# Altium footprint library Package_TO_SOT_SMD.PcbLib: 132 footprints (part 1 of 9)
Each footprint in its own frame and in the unit in brackets; x right, y up, seen from the top. Pads: shape width x height; smd on the part's side, far side on the other; paste and mask are expansions set on the pad; w line width, h text height; cw(c..) or ccw(c..) is an arc to the next point about the centre after c.
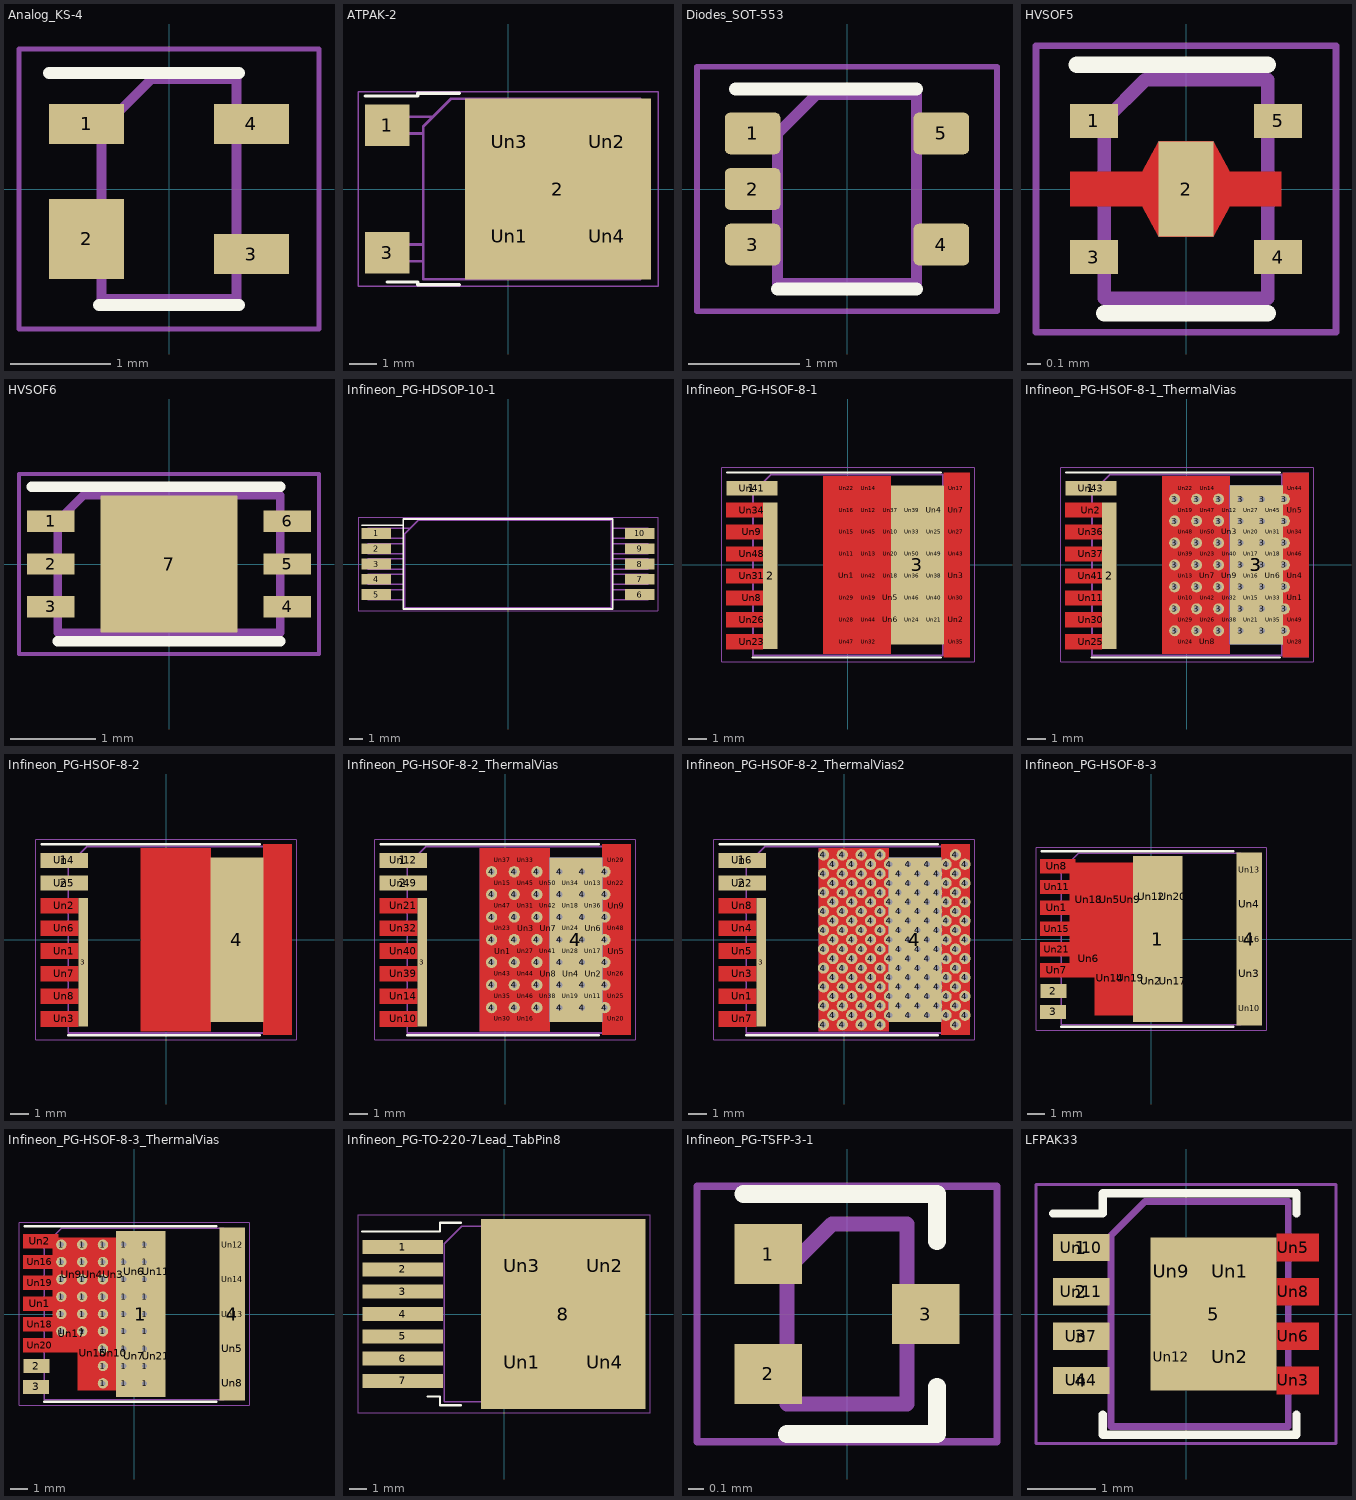
[diagram p0: the footprints below, top view; thin cyan lines are the x and y axes]

## Analog_KS-4 [mm]
pads (4):
  rect 0.75x0.4 smd: 1(-0.825,0.65) 3(0.825,-0.65) 4(0.825,0.65)
  rect 0.75x0.8 smd: 2(-0.825,-0.5)
F.SilkS:
  lines w0.12: -1.2,1.16 0.7,1.16 ; -0.7,-1.16 0.7,-1.16
F.CrtYd:
  lines w0.05: -1.5,-1.4 1.5,-1.4 1.5,1.4 -1.5,1.4 -1.5,-1.4
F.Fab:
  lines w0.1: -0.675,-1.1 -0.675,0.6 -0.175,1.1 0.675,1.1 0.675,-1.1 -0.675,-1.1
  text "'.Designator'" at 0.42,-2.023 h0.5

## ATPAK-2 [mm]
pads (7):
  rect 1.6x1.5 smd: 1(-4.35,2.3) 3(-4.35,-2.3)
  rect 6.7x6.5 smd: 2(1.8,0)
  rect 3.2x3.1 on Top Paste: Un1(0.05,-1.7) Un2(3.55,1.7) Un3(0.05,1.7) Un4(3.55,-1.7)
F.SilkS:
  lines w0.12: -5.15,3.35 -3.25,3.35 -3.25,3.45 -1.75,3.45 ; -4.35,-3.35 -3.25,-3.35 -3.25,-3.45 -1.75,-3.45
F.CrtYd:
  lines w0.05: -5.4,-3.5 5.4,-3.5 5.4,3.5 -5.4,3.5 -5.4,-3.5
F.Fab:
  lines w0.1: -3.05,-2.6 -4.75,-2.6 -4.75,-2 -3.05,-2 ; -3.05,2 -4.75,2 -4.75,2.6 -2.7,2.6 ; 4.25,-3.25 4.25,3.25 ; 4.25,-3.25 4.75,-3.25 4.75,3.25 4.25,3.25 ; 4.25,-3.25 -3.05,-3.25 -3.05,2.25 -2.05,3.25 4.25,3.25
  text "'.Designator'" at -4.047,-0.84 h1

## Diodes_SOT-553 [mm]
pads (5):
  rrect25% 0.5x0.375 smd: 1(-0.85,0.5) 2(-0.85,0) 3(-0.85,-0.5) 4(0.85,-0.5) 5(0.85,0.5)
F.SilkS:
  lines w0.12: -1,0.9 0.625,0.9 ; -0.625,-0.9 0.625,-0.9
F.CrtYd:
  lines w0.05: -1.35,-1.1 -1.35,1.1 1.35,1.1 1.35,-1.1 -1.35,-1.1
F.Fab:
  lines w0.1: -0.275,0.85 -0.625,0.5 -0.625,-0.85 0.625,-0.85 0.625,0.85 -0.25,0.85
  text "'.Designator'" at 0.339,-1.621 h0.4

## HVSOF5 [mm]
pads (5):
  rect 0.35x0.25 smd: 1(-0.675,0.5) 3(-0.675,-0.5) 4(0.675,-0.5) 5(0.675,0.5)
  rect 0.4x0.7 smd: 2(0,0)
F.Cu:
  region: 0.32,0.125 0.7,0.125 0.7,-0.125 0.32,-0.125 0.2,-0.35 -0.2,-0.35 -0.32,-0.125 -0.85,-0.125 -0.85,0.125 -0.32,0.125 -0.2,0.35 0.2,0.35
F.SilkS:
  lines w0.12: -0.8,0.91 0.6,0.91 ; -0.6,-0.91 0.6,-0.91
F.Paste:
  region: 0.32,0.125 0.7,0.125 0.7,-0.125 0.32,-0.125 0.2,-0.35 -0.2,-0.35 -0.32,-0.125 -0.85,-0.125 -0.85,0.125 -0.32,0.125 -0.2,0.35 0.2,0.35
F.Mask:
  region: 0.32,0.125 0.7,0.125 0.7,-0.125 0.32,-0.125 0.2,-0.35 -0.2,-0.35 -0.32,-0.125 -0.85,-0.125 -0.85,0.125 -0.32,0.125 -0.2,0.35 0.2,0.35
F.CrtYd:
  lines w0.05: -1.1,-1.05 1.1,-1.05 1.1,1.05 -1.1,1.05 -1.1,-1.05
F.Fab:
  lines w0.1: -0.6,-0.8 -0.6,0.5 -0.3,0.8 0.6,0.8 0.6,-0.8 -0.6,-0.8
  text "'.Designator'" at 0.351,-1.634 h0.4

## HVSOF6 [mm]
pads (7):
  rect 0.55x0.25 smd: 1(-1.38,0.5) 2(-1.38,0) 3(-1.38,-0.5) 4(1.38,-0.5) 5(1.38,0) 6(1.38,0.5)
  rect 1.6x1.6 smd: 7(0,0)
F.SilkS:
  lines w0.12: -1.6,0.9 1.3,0.9 ; -1.3,-0.9 1.3,-0.9
F.CrtYd:
  lines w0.05: -1.75,-1.05 1.75,-1.05 1.75,1.05 -1.75,1.05 -1.75,-1.05
F.Fab:
  lines w0.1: -1.3,-0.8 -1.3,0.5 -1,0.8 1.3,0.8 1.3,-0.8 -1.3,-0.8
  text "'.Designator'" at -2.428,-0.504 h0.6

## Infineon_PG-HDSOP-10-1 [mm]
pads (10):
  rect 2.2x0.8 smd: 1(-9.85,2.28) 2(-9.85,1.14) 3(-9.85,0) 4(-9.85,-1.14) 5(-9.85,-2.28) 6(9.85,-2.28) 7(9.85,-1.14) 8(9.85,0) 9(9.85,1.14) 10(9.85,2.28)
F.SilkS:
  lines w0.12: -10.9,2.9 -7.81,2.9 ; -7.81,-3.36 7.81,-3.36 7.81,3.36 -7.81,3.36 -7.81,-3.36
F.CrtYd:
  lines w0.05: -11.2,-3.5 -11.2,3.5 11.2,3.5 11.2,-3.5 -11.2,-3.5
F.Fab:
  lines w0.1: -7.7,-2.655 -10.48,-2.655 -10.48,-1.905 -7.7,-1.905 ; -7.7,-1.515 -10.48,-1.515 -10.48,-0.765 -7.7,-0.765 ; -7.7,-0.375 -10.48,-0.375 -10.48,0.375 -7.7,0.375 ; -7.7,0.765 -10.48,0.765 -10.48,1.515 -7.7,1.515 ; -7.7,1.905 -10.48,1.905 -10.48,2.655 -7.3,2.655 ; 7.7,-2.655 10.48,-2.655 10.48,-1.905 7.7,-1.905 ; 7.7,-1.515 10.48,-1.515 10.48,-0.765 7.7,-0.765 ; 7.7,-0.375 10.48,-0.375 10.48,0.375 7.7,0.375 ; 7.7,0.765 10.48,0.765 10.48,1.515 7.7,1.515 ; 7.7,1.905 10.48,1.905 10.48,2.655 7.7,2.655 ; -7.7,-3.25 7.7,-3.25 7.7,3.25 -6.7,3.25 -7.7,2.25 -7.7,-3.25
  text "'.Designator'" at -4.047,-0.84 h1

## Infineon_PG-HSOF-8-1 [mm]
pads (53):
  rect 2.8x0.8 smd: 1(-5.25,4.2)
  rect 0.8x8 smd: 2(-4.25,-0.6)
  rect 2.9x8.7 smd: 3(3.8,0)
  round 1 on Top Paste: Un1(-0.07,-0.6) Un2(5.93,-3) Un3(5.93,-0.6) Un4(4.73,3) Un5(2.33,-1.8) Un6(2.33,-3) Un7(5.93,3) Un10(2.33,1.8) Un11(-0.07,0.6) Un12(1.13,3) Un13(1.13,0.6) Un14(1.13,4.2) Un15(-0.07,1.8) Un16(-0.07,3) Un17(5.93,4.2) Un18(2.33,-0.6) Un19(1.13,-1.8) Un20(2.33,0.6) Un21(4.73,-3) Un22(-0.07,4.2) Un24(3.53,-3) Un25(4.73,1.8) Un27(5.93,1.8) Un28(-0.07,-3) Un29(-0.07,-1.8) Un30(5.93,-1.8) Un32(1.13,-4.2) Un33(3.53,1.8) Un35(5.93,-4.2) Un36(3.53,-0.6) Un37(2.33,3) Un38(4.73,-0.6) Un39(3.53,3) Un40(4.73,-1.8) Un42(1.13,-0.6) Un43(5.93,0.6) Un44(1.13,-3) Un45(1.13,1.8) Un46(3.53,-1.8) Un47(-0.07,-4.2) Un49(4.73,0.6) Un50(3.53,0.6)
  rect 2.6x0.7 on Top Paste: Un8(-5.25,-1.8) Un9(-5.25,1.8) Un23(-5.25,-4.2) Un26(-5.25,-3) Un31(-5.25,-0.6) Un34(-5.25,3) Un41(-5.25,4.2) Un48(-5.25,0.6)
F.Cu:
  region: -4.65,2.6 -6.65,2.6 -6.65,3.4 -4.65,3.4
  region: -4.65,1.4 -6.65,1.4 -6.65,2.2 -4.65,2.2
  region: -4.65,0.2 -6.65,0.2 -6.65,1 -4.65,1
  region: -4.65,-1 -6.65,-1 -6.65,-0.2 -4.65,-0.2
  region: -4.65,-2.2 -6.65,-2.2 -6.65,-1.4 -4.65,-1.4
  region: -4.65,-3.4 -6.65,-3.4 -6.65,-2.6 -4.65,-2.6
  region: -4.65,-4.6 -6.65,-4.6 -6.65,-3.8 -4.65,-3.8
  region: 6.65,-5.05 5.25,-5.05 5.25,5.05 6.65,5.05
  region: 2.35,-4.85 -1.35,-4.85 -1.35,4.85 2.35,4.85
F.SilkS:
  lines w0.12: -6.6,5.06 5.07,5.06 ; -5.2,-5.06 5.07,-5.06
F.Mask:
  region: -4.65,2.6 -6.65,2.6 -6.65,3.4 -4.65,3.4
  region: -4.65,1.4 -6.65,1.4 -6.65,2.2 -4.65,2.2
  region: -4.65,0.2 -6.65,0.2 -6.65,1 -4.65,1
  region: -4.65,-1 -6.65,-1 -6.65,-0.2 -4.65,-0.2
  region: -4.65,-2.2 -6.65,-2.2 -6.65,-1.4 -4.65,-1.4
  region: -4.65,-3.4 -6.65,-3.4 -6.65,-2.6 -4.65,-2.6
  region: -4.65,-4.6 -6.65,-4.6 -6.65,-3.8 -4.65,-3.8
  region: 6.65,-5.05 5.25,-5.05 5.25,5.05 6.65,5.05
  region: 2.35,-4.85 -1.35,-4.85 -1.35,4.85 2.35,4.85
F.CrtYd:
  lines w0.05: -6.9,-5.3 6.9,-5.3 6.9,5.3 -6.9,5.3 -6.9,-5.3
F.Fab:
  lines w0.1: -5.188,-4.95 5.188,-4.95 5.188,4.95 -4.187,4.95 -5.188,3.95 -5.188,-4.95
  text "'.Designator'" at -4.047,-0.84 h1

## Infineon_PG-HSOF-8-1_ThermalVias [mm]
pads (96):
  rect 2.8x0.8 smd: 1(-5.25,4.2)
  rect 0.8x8 smd: 2(-4.25,-0.6)
  round 0.6 hole 0.3: 3(-0.67,-3.6) 3(-0.67,-2.4) 3(-0.67,-1.2) 3(-0.67,0) 3(-0.67,1.2) 3(-0.67,2.4) 3(-0.67,3.6) 3(0.53,-3.6) 3(0.53,-2.4) 3(0.53,-1.2) 3(0.53,0) 3(0.53,1.2) 3(0.53,2.4) 3(0.53,3.6) 3(1.73,-3.6) 3(1.73,-2.4) 3(1.73,-1.2) 3(1.73,0) 3(1.73,1.2) 3(1.73,2.4) 3(1.73,3.6) 3(2.93,-3.6) 3(2.93,-2.4) 3(2.93,-1.2) 3(2.93,0) 3(2.93,1.2) 3(2.93,2.4) 3(2.93,3.6) 3(4.13,-3.6) 3(4.13,-2.4) 3(4.13,-1.2) 3(4.13,0) 3(4.13,1.2) 3(4.13,2.4) 3(4.13,3.6) 3(5.33,-3.6) 3(5.33,-2.4) 3(5.33,-1.2) 3(5.33,0) 3(5.33,1.2) 3(5.33,2.4) 3(5.33,3.6)
  rect 2.9x8.7 smd: 3(3.8,0)
  rect 2.9x8.7 smd far side: 3(3.8,0)
  round 1 on Top Paste: Un1(5.93,-1.8) Un3(2.33,1.8) Un4(5.93,-0.6) Un5(5.93,3) Un6(4.73,-0.6) Un7(1.13,-0.6) Un8(1.13,-4.2) Un9(2.33,-0.6) Un10(-0.07,-1.8) Un12(2.33,3) Un13(-0.07,-0.6) Un14(1.13,4.2) Un15(3.53,-1.8) Un16(3.53,-0.6) Un17(3.53,0.6) Un18(4.73,0.6) Un19(-0.07,3) Un20(3.53,1.8) Un21(3.53,-3) Un22(-0.07,4.2) Un23(1.13,0.6) Un24(-0.07,-4.2) Un26(1.13,-3) Un27(3.53,3) Un28(5.93,-4.2) Un29(-0.07,-3) Un31(4.73,1.8) Un32(2.33,-1.8) Un33(4.73,-1.8) Un34(5.93,1.8) Un35(4.73,-3) Un38(2.33,-3) Un39(-0.07,0.6) Un40(2.33,0.6) Un42(1.13,-1.8) Un44(5.93,4.2) Un45(4.73,3) Un46(5.93,0.6) Un47(1.13,3) Un48(-0.07,1.8) Un49(5.93,-3) Un50(1.13,1.8)
  rect 2.6x0.7 on Top Paste: Un2(-5.25,3) Un11(-5.25,-1.8) Un25(-5.25,-4.2) Un30(-5.25,-3) Un36(-5.25,1.8) Un37(-5.25,0.6) Un41(-5.25,-0.6) Un43(-5.25,4.2)
F.Cu:
  region: -4.65,2.6 -6.65,2.6 -6.65,3.4 -4.65,3.4
  region: -4.65,1.4 -6.65,1.4 -6.65,2.2 -4.65,2.2
  region: -4.65,0.2 -6.65,0.2 -6.65,1 -4.65,1
  region: -4.65,-1 -6.65,-1 -6.65,-0.2 -4.65,-0.2
  region: -4.65,-2.2 -6.65,-2.2 -6.65,-1.4 -4.65,-1.4
  region: -4.65,-3.4 -6.65,-3.4 -6.65,-2.6 -4.65,-2.6
  region: -4.65,-4.6 -6.65,-4.6 -6.65,-3.8 -4.65,-3.8
  region: 6.65,-5.05 5.25,-5.05 5.25,5.05 6.65,5.05
  region: 2.35,-4.85 -1.35,-4.85 -1.35,4.85 2.35,4.85
B.Cu:
  region: 6.65,-5.05 5.25,-5.05 5.25,5.05 6.65,5.05
  region: 2.35,-4.85 -1.35,-4.85 -1.35,4.85 2.35,4.85
F.SilkS:
  lines w0.12: -6.6,5.06 5.07,5.06 ; -5.2,-5.06 5.07,-5.06
F.Mask:
  region: -4.65,2.6 -6.65,2.6 -6.65,3.4 -4.65,3.4
  region: -4.65,1.4 -6.65,1.4 -6.65,2.2 -4.65,2.2
  region: -4.65,0.2 -6.65,0.2 -6.65,1 -4.65,1
  region: -4.65,-1 -6.65,-1 -6.65,-0.2 -4.65,-0.2
  region: -4.65,-2.2 -6.65,-2.2 -6.65,-1.4 -4.65,-1.4
  region: -4.65,-3.4 -6.65,-3.4 -6.65,-2.6 -4.65,-2.6
  region: -4.65,-4.6 -6.65,-4.6 -6.65,-3.8 -4.65,-3.8
  region: 6.65,-5.05 5.25,-5.05 5.25,5.05 6.65,5.05
  region: 2.35,-4.85 -1.35,-4.85 -1.35,4.85 2.35,4.85
F.CrtYd:
  lines w0.05: -6.9,-5.3 -6.9,5.3 6.9,5.3 6.9,-5.3 -6.9,-5.3
F.Fab:
  lines w0.1: -5.188,-4.95 -5.188,3.95 -4.187,4.95 5.188,4.95 5.188,-4.95 -5.188,-4.95
  text "'.Designator'" at -4.047,-0.84 h1

## Infineon_PG-HSOF-8-2 [mm]
pads (12):
  rect 2.5x0.8 smd: 1(-5.4,4.2) 2(-5.4,3)
  rect 0.5x6.8 smd: 3(-4.4,-1.2)
  rect 2.8x8.7 smd: 4(3.75,0)
  rect 2.35x0.7 on Top Paste: Un1(-5.4,-0.6) Un2(-5.4,1.8) Un3(-5.4,-4.2) Un4(-5.4,4.2) Un5(-5.4,3) Un6(-5.4,0.6) Un7(-5.4,-1.8) Un8(-5.4,-3)
F.Cu:
  region: -4.65,1.4 -6.65,1.4 -6.65,2.2 -4.65,2.2
  region: -4.65,0.2 -6.65,0.2 -6.65,1 -4.65,1
  region: -4.65,-1 -6.65,-1 -6.65,-0.2 -4.65,-0.2
  region: -4.65,-2.2 -6.65,-2.2 -6.65,-1.4 -4.65,-1.4
  region: -4.65,-3.4 -6.65,-3.4 -6.65,-2.6 -4.65,-2.6
  region: -4.65,-4.6 -6.65,-4.6 -6.65,-3.8 -4.65,-3.8
  region: 6.65,-5.05 5.15,-5.05 5.15,5.05 6.65,5.05
  region: 2.35,-4.85 -1.35,-4.85 -1.35,4.85 2.35,4.85
F.SilkS:
  lines w0.12: -6.6,5.06 4.97,5.06 ; -5.2,-5.06 4.97,-5.06
F.Paste:
  region: 6.65,-5.05 5.15,-5.05 5.15,5.05 6.65,5.05
  region: 2.35,-4.85 -1.35,-4.85 -1.35,4.85 2.35,4.85
F.Mask:
  region: -4.65,1.4 -6.65,1.4 -6.65,2.2 -4.65,2.2
  region: -4.65,0.2 -6.65,0.2 -6.65,1 -4.65,1
  region: -4.65,-1 -6.65,-1 -6.65,-0.2 -4.65,-0.2
  region: -4.65,-2.2 -6.65,-2.2 -6.65,-1.4 -4.65,-1.4
  region: -4.65,-3.4 -6.65,-3.4 -6.65,-2.6 -4.65,-2.6
  region: -4.65,-4.6 -6.65,-4.6 -6.65,-3.8 -4.65,-3.8
  region: 6.65,-5.05 5.15,-5.05 5.15,5.05 6.65,5.05
  region: 2.35,-4.85 -1.35,-4.85 -1.35,4.85 2.35,4.85
F.CrtYd:
  lines w0.05: -6.9,-5.3 -6.9,5.3 6.9,5.3 6.9,-5.3 -6.9,-5.3
F.Fab:
  lines w0.1: -5.188,-4.95 5.188,-4.95 5.188,4.95 -4.187,4.95 -5.188,3.95 -5.188,-4.95
  text "'.Designator'" at -4.047,-0.84 h1

## Infineon_PG-HSOF-8-2_ThermalVias [mm]
pads (97):
  rect 2.5x0.8 smd: 1(-5.4,4.2) 2(-5.4,3)
  rect 0.5x6.8 smd: 3(-4.4,-1.2)
  round 0.6 hole 0.3: 4(-0.72,-3.6) 4(-0.72,-2.4) 4(-0.72,-1.2) 4(-0.72,0) 4(-0.72,1.2) 4(-0.72,2.4) 4(-0.72,3.6) 4(0.48,-3.6) 4(0.48,-2.4) 4(0.48,-1.2) 4(0.48,0) 4(0.48,1.2) 4(0.48,2.4) 4(0.48,3.6) 4(1.68,-3.6) 4(1.68,-2.4) 4(1.68,-1.2) 4(1.68,0) 4(1.68,1.2) 4(1.68,2.4) 4(1.68,3.6) 4(2.88,-3.6) 4(2.88,-2.4) 4(2.88,-1.2) 4(2.88,0) 4(2.88,1.2) 4(2.88,2.4) 4(2.88,3.6) 4(4.08,-3.6) 4(4.08,-2.4) 4(4.08,-1.2) 4(4.08,0) 4(4.08,1.2) 4(4.08,2.4) 4(4.08,3.6) 4(5.28,-3.6) 4(5.28,-2.4) 4(5.28,-1.2) 4(5.28,0) 4(5.28,1.2) 4(5.28,2.4) 4(5.28,3.6)
  rect 2.8x8.7 smd: 4(3.75,0)
  rect 2.8x8.7 smd far side: 4(3.75,0)
  round 1 on Top Paste: Un1(-0.12,-0.6) Un2(4.68,-1.8) Un3(1.08,0.6) Un4(3.48,-1.8) Un5(5.88,-0.6) Un6(4.68,0.6) Un7(2.28,0.6) Un8(2.28,-1.8) Un9(5.88,1.8) Un11(4.68,-3) Un13(4.68,3) Un15(-0.12,3) Un16(1.08,-4.2) Un17(4.68,-0.6) Un18(3.48,1.8) Un19(3.48,-3) Un20(5.88,-4.2) Un22(5.88,3) Un23(-0.12,0.6) Un24(3.48,0.6) Un25(5.88,-3) Un26(5.88,-1.8) Un27(1.08,-0.6) Un28(3.48,-0.6) Un29(5.88,4.2) Un30(-0.12,-4.2) Un31(1.08,1.8) Un33(1.08,4.2) Un34(3.48,3) Un35(-0.12,-3) Un36(4.68,1.8) Un37(-0.12,4.2) Un38(2.28,-3) Un41(2.28,-0.6) Un42(2.28,1.8) Un43(-0.12,-1.8) Un44(1.08,-1.8) Un45(1.08,3) Un46(1.08,-3) Un47(-0.12,1.8) Un48(5.88,0.6) Un50(2.28,3)
  rect 2.35x0.7 on Top Paste: Un10(-5.4,-4.2) Un12(-5.4,4.2) Un14(-5.4,-3) Un21(-5.4,1.8) Un32(-5.4,0.6) Un39(-5.4,-1.8) Un40(-5.4,-0.6) Un49(-5.4,3)
F.Cu:
  region: -4.65,1.4 -6.65,1.4 -6.65,2.2 -4.65,2.2
  region: -4.65,0.2 -6.65,0.2 -6.65,1 -4.65,1
  region: -4.65,-1 -6.65,-1 -6.65,-0.2 -4.65,-0.2
  region: -4.65,-2.2 -6.65,-2.2 -6.65,-1.4 -4.65,-1.4
  region: -4.65,-3.4 -6.65,-3.4 -6.65,-2.6 -4.65,-2.6
  region: -4.65,-4.6 -6.65,-4.6 -6.65,-3.8 -4.65,-3.8
  region: 6.65,-5.05 5.15,-5.05 5.15,5.05 6.65,5.05
  region: 2.35,-4.85 -1.35,-4.85 -1.35,4.85 2.35,4.85
B.Cu:
  region: 6.65,-5.05 5.15,-5.05 5.15,5.05 6.65,5.05
  region: 2.35,-4.85 -1.35,-4.85 -1.35,4.85 2.35,4.85
F.SilkS:
  lines w0.12: -6.6,5.06 4.97,5.06 ; -5.2,-5.06 4.97,-5.06
F.Mask:
  region: -4.65,1.4 -6.65,1.4 -6.65,2.2 -4.65,2.2
  region: -4.65,0.2 -6.65,0.2 -6.65,1 -4.65,1
  region: -4.65,-1 -6.65,-1 -6.65,-0.2 -4.65,-0.2
  region: -4.65,-2.2 -6.65,-2.2 -6.65,-1.4 -4.65,-1.4
  region: -4.65,-3.4 -6.65,-3.4 -6.65,-2.6 -4.65,-2.6
  region: -4.65,-4.6 -6.65,-4.6 -6.65,-3.8 -4.65,-3.8
  region: 6.65,-5.05 5.15,-5.05 5.15,5.05 6.65,5.05
  region: 2.35,-4.85 -1.35,-4.85 -1.35,4.85 2.35,4.85
F.CrtYd:
  lines w0.05: -6.9,-5.3 6.9,-5.3 6.9,5.3 -6.9,5.3 -6.9,-5.3
F.Fab:
  lines w0.1: -5.188,-4.95 5.188,-4.95 5.188,4.95 -4.187,4.95 -5.188,3.95 -5.188,-4.95
  text "'.Designator'" at -4.047,-0.84 h1

## Infineon_PG-HSOF-8-2_ThermalVias2 [mm]
pads (159):
  rect 2.5x0.8 smd: 1(-5.4,4.2) 2(-5.4,3)
  rect 0.5x6.8 smd: 3(-4.4,-1.2)
  round 0.6 hole 0.3: 4(-1.1,-4.5) 4(-1.1,-3.5) 4(-1.1,-2.5) 4(-1.1,-1.5) 4(-1.1,-0.5) 4(-1.1,0.5) 4(-1.1,1.5) 4(-1.1,2.5) 4(-1.1,3.5) 4(-1.1,4.5) 4(-0.6,-4) 4(-0.6,-3) 4(-0.6,-2) 4(-0.6,-1) 4(-0.6,0) 4(-0.6,1) 4(-0.6,2) 4(-0.6,3) 4(-0.6,4) 4(-0.1,-4.5) 4(-0.1,-3.5) 4(-0.1,-2.5) 4(-0.1,-1.5) 4(-0.1,-0.5) 4(-0.1,0.5) 4(-0.1,1.5) 4(-0.1,2.5) 4(-0.1,3.5) 4(-0.1,4.5) 4(0.4,-4) 4(0.4,-3) 4(0.4,-2) 4(0.4,-1) 4(0.4,0) 4(0.4,1) 4(0.4,2) 4(0.4,3) 4(0.4,4) 4(0.9,-4.5) 4(0.9,-3.5) 4(0.9,-2.5) 4(0.9,-1.5) 4(0.9,-0.5) 4(0.9,0.5) 4(0.9,1.5) 4(0.9,2.5) 4(0.9,3.5) 4(0.9,4.5) 4(1.4,-4) 4(1.4,-3) 4(1.4,-2) 4(1.4,-1) 4(1.4,0) 4(1.4,1) 4(1.4,2) 4(1.4,3) 4(1.4,4) 4(1.9,-4.5) 4(1.9,-3.5) 4(1.9,-2.5) 4(1.9,-1.5) 4(1.9,-0.5) 4(1.9,0.5) 4(1.9,1.5) 4(1.9,2.5) 4(1.9,3.5) 4(1.9,4.5) 4(2.4,-4) 4(2.4,-3) 4(2.4,-2) 4(2.4,-1) 4(2.4,0) 4(2.4,1) 4(2.4,2) 4(2.4,3) 4(2.4,4) 4(2.9,-3.5) 4(2.9,-2.5) 4(2.9,-1.5) 4(2.9,-0.5) 4(2.9,0.5) 4(2.9,1.5) 4(2.9,2.5) 4(2.9,3.5) 4(3.4,-4) 4(3.4,-3) 4(3.4,-2) 4(3.4,-1) 4(3.4,0) 4(3.4,1) 4(3.4,2) 4(3.4,3) 4(3.4,4) 4(3.9,-3.5) 4(3.9,-2.5) 4(3.9,-1.5) 4(3.9,-0.5) 4(3.9,0.5) 4(3.9,1.5) 4(3.9,2.5) 4(3.9,3.5) 4(4.4,-4) 4(4.4,-3) 4(4.4,-2) 4(4.4,-1) 4(4.4,0) 4(4.4,1) 4(4.4,2) 4(4.4,3) 4(4.4,4) 4(4.9,-3.5) 4(4.9,-2.5) 4(4.9,-1.5) 4(4.9,-0.5) 4(4.9,0.5) 4(4.9,1.5) 4(4.9,2.5) 4(4.9,3.5) 4(5.4,-4) 4(5.4,-3) 4(5.4,-2) 4(5.4,-1) 4(5.4,0) 4(5.4,1) 4(5.4,2) 4(5.4,3) 4(5.4,4) 4(5.9,-4.5) 4(5.9,-3.5) 4(5.9,-2.5) 4(5.9,-1.5) 4(5.9,-0.5) 4(5.9,0.5) 4(5.9,1.5) 4(5.9,2.5) 4(5.9,3.5) 4(5.9,4.5) 4(6.4,-4) 4(6.4,-3) 4(6.4,-2) 4(6.4,-1) 4(6.4,0) 4(6.4,1) 4(6.4,2) 4(6.4,3) 4(6.4,4)
  rect 2.8x8.7 smd far side: 4(3.75,0)
  rect 2.8x8.7 smd: 4(3.75,0)
  rect 2.35x0.7 on Top Paste: Un1(-5.4,-3) Un2(-5.4,3) Un3(-5.4,-1.8) Un4(-5.4,0.6) Un5(-5.4,-0.6) Un6(-5.4,4.2) Un7(-5.4,-4.2) Un8(-5.4,1.8)
F.Cu:
  region: -4.65,1.4 -6.65,1.4 -6.65,2.2 -4.65,2.2
  region: -4.65,0.2 -6.65,0.2 -6.65,1 -4.65,1
  region: -4.65,-1 -6.65,-1 -6.65,-0.2 -4.65,-0.2
  region: -4.65,-2.2 -6.65,-2.2 -6.65,-1.4 -4.65,-1.4
  region: -4.65,-3.4 -6.65,-3.4 -6.65,-2.6 -4.65,-2.6
  region: -4.65,-4.6 -6.65,-4.6 -6.65,-3.8 -4.65,-3.8
  region: 6.65,-5.05 5.15,-5.05 5.15,5.05 6.65,5.05
  region: 2.35,-4.85 -1.35,-4.85 -1.35,4.85 2.35,4.85
B.Cu:
  region: 6.65,-5.05 5.15,-5.05 5.15,5.05 6.65,5.05
  region: 2.35,-4.85 -1.35,-4.85 -1.35,4.85 2.35,4.85
F.SilkS:
  lines w0.12: -6.6,5.06 4.97,5.06 ; -5.2,-5.06 4.97,-5.06
F.Paste:
  region: 6.65,-5.05 5.15,-5.05 5.15,5.05 6.65,5.05
  region: 2.35,-4.85 -1.35,-4.85 -1.35,4.85 2.35,4.85
F.Mask:
  region: -4.65,1.4 -6.65,1.4 -6.65,2.2 -4.65,2.2
  region: -4.65,0.2 -6.65,0.2 -6.65,1 -4.65,1
  region: -4.65,-1 -6.65,-1 -6.65,-0.2 -4.65,-0.2
  region: -4.65,-2.2 -6.65,-2.2 -6.65,-1.4 -4.65,-1.4
  region: -4.65,-3.4 -6.65,-3.4 -6.65,-2.6 -4.65,-2.6
  region: -4.65,-4.6 -6.65,-4.6 -6.65,-3.8 -4.65,-3.8
  region: 6.65,-5.05 5.15,-5.05 5.15,5.05 6.65,5.05
  region: 2.35,-4.85 -1.35,-4.85 -1.35,4.85 2.35,4.85
F.CrtYd:
  lines w0.05: -6.9,-5.3 -6.9,5.3 6.9,5.3 6.9,-5.3 -6.9,-5.3
F.Fab:
  lines w0.1: -5.188,-4.95 5.188,-4.95 5.188,4.95 -4.187,4.95 -5.188,3.95 -5.188,-4.95
  text "'.Designator'" at -4.047,-0.84 h1

## Infineon_PG-HSOF-8-3 [mm]
pads (25):
  rect 2.85x9.6 smd: 1(0.385,0)
  rect 1.5x0.8 smd: 2(-5.64,-3) 3(-5.65,-4.2)
  rect 1.45x10 smd: 4(5.66,0)
  rect 1.8x0.8 on Top Paste: Un1(-5.44,1.8) Un7(-5.44,-1.8) Un8(-5.44,4.2) Un11(-5.44,3) Un15(-5.44,0.6) Un21(-5.44,-0.6)
  rect 0.8x4.5 on Top Paste: Un2(0,-2.45) Un12(0,2.45) Un17(1.26,-2.45) Un20(1.26,2.45)
  rect 1.35x1.5 on Top Paste: Un3(5.66,-2) Un4(5.66,2) Un10(5.65,-4) Un13(5.65,4) Un16(5.66,0)
  rect 0.8x4.1 on Top Paste: Un5(-2.4,2.25) Un9(-1.2,2.25) Un14(-2.4,-2.25) Un18(-3.6,2.25) Un19(-1.2,-2.25)
  rect 0.8x1.9 on Top Paste: Un6(-3.6,-1.15)
F.Cu:
  region: -4.39,4.4 -1.04,4.4 -1.04,-4.4 -3.24,-4.4 -3.24,-2.2 -6.39,-2.2 -6.39,-1.4 -4.69,-1.4 -4.69,-1 -6.39,-1 -6.39,-0.2 -4.69,-0.2 -4.69,0.2 -6.39,0.2 -6.39,1 -4.69,1 -4.69,1.4 -6.39,1.4 -6.39,2.2 -4.69,2.2 -4.69,2.6 -6.39,2.6 -6.39,3.4 -4.69,3.4 -4.69,3.8 -6.39,3.8 -6.39,4.6 -4.39,4.6
F.SilkS:
  lines w0.12: -6.33,5.06 4.755,5.06 ; -5.2,-5.06 4.755,-5.06
F.Mask:
  region: -4.39,4.4 -1.04,4.4 -1.04,-4.4 -3.24,-4.4 -3.24,-2.2 -6.39,-2.2 -6.39,-1.4 -4.69,-1.4 -4.69,-1 -6.39,-1 -6.39,-0.2 -4.69,-0.2 -4.69,0.2 -6.39,0.2 -6.39,1 -4.69,1 -4.69,1.4 -6.39,1.4 -6.39,2.2 -4.69,2.2 -4.69,2.6 -6.39,2.6 -6.39,3.4 -4.69,3.4 -4.69,3.8 -6.39,3.8 -6.39,4.6 -4.39,4.6
F.CrtYd:
  lines w0.05: -6.64,-5.25 -6.64,5.25 6.64,5.25 6.64,-5.25 -6.64,-5.25
F.Fab:
  lines w0.1: -5.188,-4.95 5.188,-4.95 5.188,4.95 -4.187,4.95 -5.188,3.95 -5.188,-4.95
  text "'.Designator'" at -4.047,-0.84 h1

## Infineon_PG-HSOF-8-3_ThermalVias [mm]
pads (64):
  round 0.6 hole 0.3: 1(-4.2,-1) 1(-4.2,0) 1(-4.2,1) 1(-4.2,2) 1(-4.2,3) 1(-4.2,4) 1(-3,-1) 1(-3,0) 1(-3,1) 1(-3,2) 1(-3,3) 1(-3,4) 1(-1.8,-4) 1(-1.8,-3) 1(-1.8,-2) 1(-1.8,-1) 1(-1.8,0) 1(-1.8,1) 1(-1.8,2) 1(-1.8,3) 1(-1.8,4) 1(-0.6,-4) 1(-0.6,-3) 1(-0.6,-2) 1(-0.6,-1) 1(-0.6,0) 1(-0.6,1) 1(-0.6,2) 1(-0.6,3) 1(-0.6,4) 1(0.6,-4) 1(0.6,-3) 1(0.6,-2) 1(0.6,-1) 1(0.6,0) 1(0.6,1) 1(0.6,2) 1(0.6,3) 1(0.6,4)
  rect 2.85x9.6 smd: 1(0.385,0)
  rect 1.5x0.8 smd: 2(-5.64,-3) 3(-5.65,-4.2)
  rect 1.45x10 smd: 4(5.66,0)
  rect 1.8x0.8 on Top Paste: Un1(-5.44,0.6) Un2(-5.44,4.2) Un16(-5.44,3) Un18(-5.44,-0.6) Un19(-5.44,1.8) Un20(-5.44,-1.8)
  rect 0.8x4.1 on Top Paste: Un3(-1.2,2.25) Un4(-2.4,2.25) Un9(-3.6,2.25) Un10(-1.2,-2.25) Un15(-2.4,-2.25)
  rect 1.35x1.5 on Top Paste: Un5(5.66,-2) Un8(5.65,-4) Un12(5.65,4) Un13(5.66,0) Un14(5.66,2)
  rect 0.8x4.5 on Top Paste: Un6(0,2.45) Un7(0,-2.45) Un11(1.26,2.45) Un21(1.26,-2.45)
  rect 0.8x1.9 on Top Paste: Un17(-3.6,-1.15)
F.Cu:
  region: -4.39,4.4 -1.04,4.4 -1.04,-4.4 -3.24,-4.4 -3.24,-2.2 -6.39,-2.2 -6.39,-1.4 -4.69,-1.4 -4.69,-1 -6.39,-1 -6.39,-0.2 -4.69,-0.2 -4.69,0.2 -6.39,0.2 -6.39,1 -4.69,1 -4.69,1.4 -6.39,1.4 -6.39,2.2 -4.69,2.2 -4.69,2.6 -6.39,2.6 -6.39,3.4 -4.69,3.4 -4.69,3.8 -6.39,3.8 -6.39,4.6 -4.39,4.6
F.SilkS:
  lines w0.12: -6.33,5.06 4.755,5.06 ; -5.2,-5.06 4.755,-5.06
F.Mask:
  region: -4.39,4.4 -1.04,4.4 -1.04,-4.4 -3.24,-4.4 -3.24,-2.2 -6.39,-2.2 -6.39,-1.4 -4.69,-1.4 -4.69,-1 -6.39,-1 -6.39,-0.2 -4.69,-0.2 -4.69,0.2 -6.39,0.2 -6.39,1 -4.69,1 -4.69,1.4 -6.39,1.4 -6.39,2.2 -4.69,2.2 -4.69,2.6 -6.39,2.6 -6.39,3.4 -4.69,3.4 -4.69,3.8 -6.39,3.8 -6.39,4.6 -4.39,4.6
F.CrtYd:
  lines w0.05: -6.64,-5.25 -6.64,5.25 6.64,5.25 6.64,-5.25 -6.64,-5.25
F.Fab:
  lines w0.1: -5.188,-4.95 -5.188,3.95 -4.187,4.95 5.188,4.95 5.188,-4.95 -5.188,-4.95
  text "'.Designator'" at -4.047,-0.84 h1

## Infineon_PG-TO-220-7Lead_TabPin8 [mm]
pads (12):
  rect 4.6x0.8 smd: 1(-5.775,3.81) 2(-5.775,2.54) 3(-5.775,1.27) 4(-5.775,0) 5(-5.775,-1.27) 6(-5.775,-2.54) 7(-5.775,-3.81)
  rect 9.4x10.8 smd: 8(3.375,0)
  rect 4.6x5.3 on Top Paste: Un1(1,-2.75) Un2(5.75,2.75) Un3(1,2.75) Un4(5.75,-2.75)
F.SilkS:
  lines w0.12: -8.075,4.7 -3.65,4.7 -3.65,5.2 -2.45,5.2 ; -4.35,-4.7 -3.65,-4.7 -3.65,-4.8 -3.65,-5.2 -2.45,-5.2
F.CrtYd:
  lines w0.05: -8.32,-5.65 8.33,-5.65 8.33,5.65 -8.32,5.65 -8.32,-5.65
F.Fab:
  lines w0.1: 5.85,-5 -3.4,-5 -3.4,4 -2.4,5 5.925,5 ; 5.925,5 5.925,-5 6.925,-5 6.925,5 5.925,5
  text "'.Designator'" at -1.397,-0.74 h1

## Infineon_PG-TSFP-3-1 [mm]
pads (3):
  rect 0.45x0.4 smd: 1(-0.525,0.4) 2(-0.525,-0.4) 3(0.525,0)
F.SilkS:
  lines w0.12: -0.69,0.8 0.6,0.8 0.6,0.485 ; -0.4,-0.8 0.6,-0.8 0.6,-0.485
F.CrtYd:
  lines w0.05: -1,-0.85 -1,0.85 1,0.85 1,-0.85 -1,-0.85
F.Fab:
  lines w0.1: -0.4,-0.6 -0.4,0.3 -0.1,0.6 0.4,0.6 0.4,-0.6 -0.4,-0.6
  text "'.Designator'" at 1.32,-2.023 h0.5

## LFPAK33 [mm]
pads (17):
  rect 0.83x0.4 smd: 1(-1.535,0.975) 2(-1.535,0.325) 3(-1.535,-0.325) 4(-1.535,-0.975)
  rect 1.85x2.25 smd: 5(0.405,0)
  rect 0.51x0.635 on Top Paste: Un1(0.645,0.626) Un2(0.645,-0.626) Un9(-0.215,0.626) Un12(-0.215,-0.626)
  rect 0.75x0.3 on Top Paste: Un3(1.575,-0.975) Un5(1.575,0.975) Un6(1.575,-0.325) Un8(1.575,0.325)
  rect 0.83x0.3 on Top Paste: Un4(-1.535,-0.975) Un7(-1.535,-0.325) Un10(-1.535,0.975) Un11(-1.535,0.325)
F.Cu:
  region: 1.95,0.775 1.33,0.775 1.33,1.175 1.95,1.175
  region: 1.95,0.125 1.33,0.125 1.33,0.525 1.95,0.525
  region: 1.95,-0.525 1.33,-0.525 1.33,-0.125 1.95,-0.125
  region: 1.95,-1.175 1.33,-1.175 1.33,-0.775 1.95,-0.775
F.SilkS:
  lines w0.12: -1.95,1.475 -1.22,1.475 -1.22,1.77 1.62,1.77 1.62,1.475 ; -1.22,-1.475 -1.22,-1.77 1.62,-1.77 1.62,-1.475
F.Mask:
  region: 1.95,0.775 1.33,0.775 1.33,1.175 1.95,1.175
  region: 1.95,0.125 1.33,0.125 1.33,0.525 1.95,0.525
  region: 1.95,-0.525 1.33,-0.525 1.33,-0.125 1.95,-0.125
  region: 1.95,-1.175 1.33,-1.175 1.33,-0.775 1.95,-0.775
F.CrtYd:
  lines w0.05: -2.2,-1.9 2.2,-1.9 2.2,1.9 -2.2,1.9 -2.2,-1.9
F.Fab:
  lines w0.1: -1.1,-1.65 1.5,-1.65 1.5,1.65 -0.6,1.65 -1.1,1.15 -1.1,-1.65
  text "'.Designator'" at 0.648,-3.053 h0.75